# Altium footprint library PcbLib1.PcbLib: 20 footprints (part 1 of 2)
Each footprint in its own frame and in the unit in brackets; x right, y up, seen from the top. Pads: shape width x height; smd on the part's side, far side on the other; paste and mask are expansions set on the pad; w line width, h text height; cw(c..) or ccw(c..) is an arc to the next point about the centre after c.
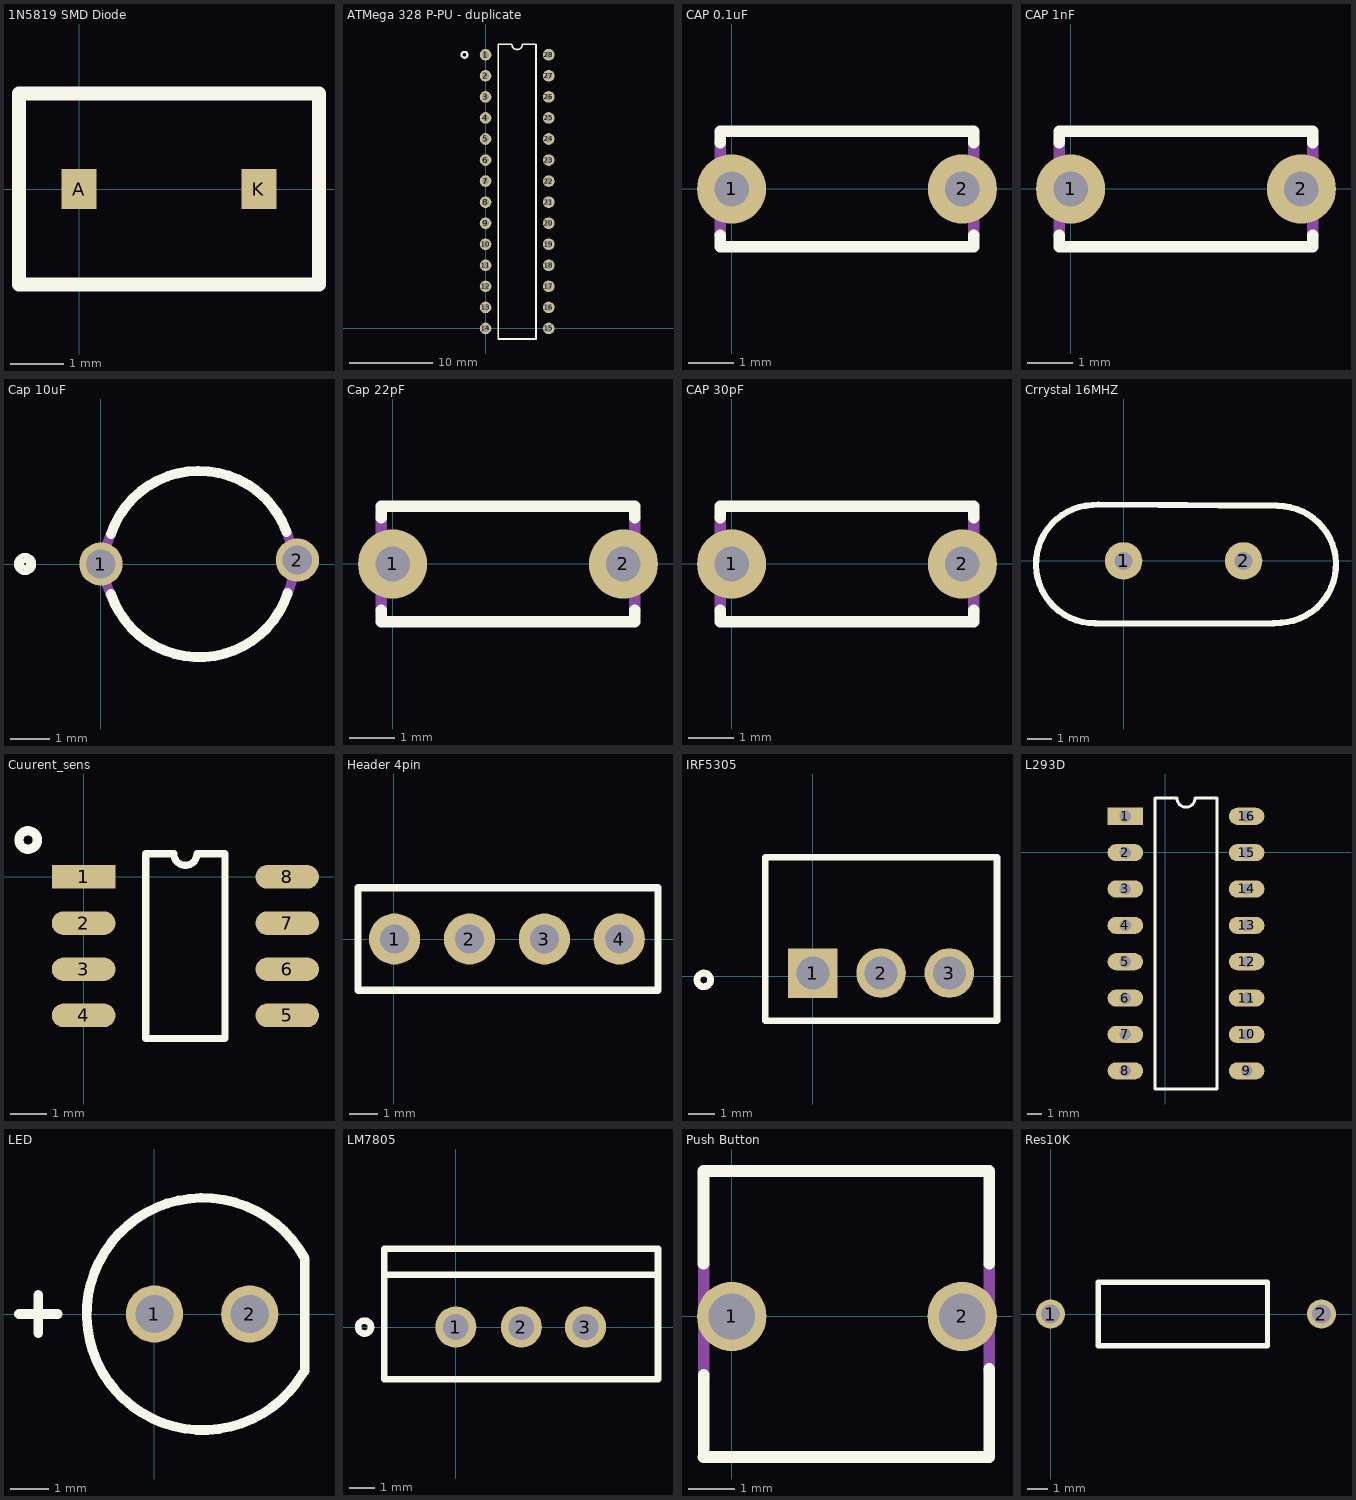
[diagram p0: the footprints below, top view; thin cyan lines are the x and y axes]

## 1N5819 SMD Diode [mm]
pads (2):
  rect 0.65x0.75 smd: A(0,0) K(3.35,0)
Top Overlay:
  lines w0.254: -1.119,-1.778 4.469,-1.778 4.469,1.778 -1.119,1.778 -1.119,-1.778
3D body "1N5819HW-7-F--3DModel-STEP-56544.STEP": height 1.5, standoff -0.03, extent -0.047,-0.788 3.603,0.762

## ATMega 328 P-PU - duplicate [mm]
pads (28):
  round 1.4 hole 0.85: 1(0,33.02) 2(0,30.48) 3(0,27.94) 4(0,25.4) 5(0,22.86) 6(0,20.32) 7(0,17.78) 8(0,15.24) 9(0,12.7) 10(0,10.16) 11(0,7.62) 12(0,5.08) 13(0,2.54) 14(0,0) 15(7.62,0) 16(7.62,2.54) 17(7.62,5.08) 18(7.62,7.62) 19(7.62,10.16) 20(7.62,12.7) 21(7.62,15.24) 22(7.62,17.78) 23(7.62,20.32) 24(7.62,22.86) 25(7.62,25.4) 26(7.62,27.94) 27(7.62,30.48) 28(7.62,33.02)
Top Overlay:
  circle w0.254: c-2.54,33.02 r0.359
  lines w0.2: 1.535,-1.27 6.085,-1.27 6.085,34.29 4.445,34.29 cw(c3.81,34.29) 3.175,34.29 1.535,34.29 1.535,-1.27
3D body "ATMEGA328P-PU--3DModel-STEP-56544.STEP": height 4.57, standoff -3.43, extent -0.14,-0.826 7.76,33.846

## CAP 0.1uF [mil]
pads (2):
  round 60 hole 30: 1(0,0) 2(200,0)
Top Overlay:
  lines w10: -10,-40 -10,-50 210,-50 210,-40 ; -10,40 -10,50 210,50 210,40
Mechanical 1:
  lines w10: -10,-40 -10,40 ; 210,-40 210,40
3D body "SR215E104ZARTR1.STEP": height 230.87, standoff -300, extent -10,-62.5 210,62.5

## CAP 1nF [mil]
pads (2):
  round 60 hole 30: 1(0,0) 2(200,0)
Top Overlay:
  lines w10: -10,-40 -10,-50 210,-50 210,-40 ; -10,40 -10,50 210,50 210,40
Mechanical 1:
  lines w10: -10,-40 -10,40 ; 210,-40 210,40
3D body "Cap 22pF.STEP": height 216.54, standoff -354.33, extent -6.54,-48.43 210,50

## Cap 10uF [mm]
pads (2):
  round 1.1 hole 0.75: 1(0,0) 2(5,0.102)
Top Overlay:
  circle w0.254: c-1.93,0 r0.155
  lines w0.254: 0.254,-0.762 ccw(c2.5,0) 4.754,-0.738 ; 0.254,0.762 cw(c2.5,0) 4.726,0.819
Mechanical 1:
  lines w0.254: 0.254,0.762 ccw(c1.97,-0.02) 0.336,-0.961 ; 4.657,0.941 cw(c3.023,0) 4.735,-0.789
3D body "Cap 10uf.STEP": height 12.5, standoff -15.5, extent -0.21,-2.5 5.29,2.5

## Cap 22pF [mil]
pads (2):
  round 60 hole 30: 1(0,0) 2(200,0)
Top Overlay:
  lines w10: -10,-40 -10,-50 210,-50 210,-40 ; -10,40 -10,50 210,50 210,40
Mechanical 1:
  lines w10: -10,-40 -10,40 ; 210,-40 210,40
3D body "Cap 22pF.STEP": height 216.54, standoff -354.33, extent -8.27,-49.21 208.27,49.21

## CAP 30pF [mil]
pads (2):
  round 60 hole 30: 1(0,0) 2(200,0)
Top Overlay:
  lines w10: -10,-40 -10,-50 210,-50 210,-40 ; -10,40 -10,50 210,50 210,40
Mechanical 1:
  lines w10: -10,-40 -10,40 ; 210,-40 210,40
3D body "SR215E104ZARTR1.STEP": height 230.87, standoff -300, extent -10,-65 210,60

## Crrystal 16MHZ [mil]
pads (2):
  round 60 hole 28.74: 1(0,0) 2(192.13,0)
Top Overlay:
  lines w10: 239.87,-100.13 -45.3,-100.11 cw(c-45.3,-5.26) -50.28,89.46 -40,90 246.44,88.01 cw(c246.44,-5.72) 251.95,-99.29 240.59,-100.01
3D body "Crystal 3D .STEP": height 255.91, standoff -381.89, extent -123.43,-91.54 323.43,91.54

## Cuurent_sens [mm]
pads (8):
  rect 1.75x0.65 smd: 1(0,0)
  oval 1.75x0.65 smd: 2(0,-1.27) 3(0,-2.54) 4(0,-3.81) 5(5.6,-3.81) 6(5.6,-2.54) 7(5.6,-1.27) 8(5.6,0)
Top Overlay:
  circle w0.254: c-1.524,1.016 r0.254
  lines w0.2: 1.71,-4.445 3.89,-4.445 3.89,0.635 3.117,0.635 cw(c2.8,0.635) 2.482,0.635 1.71,0.635 1.71,-4.445
3D body "ACS712ELCTR-20A-T--3DModel-STEP-418109.STEP": height 1.75, standoff 0, extent -0.206,-4.482 5.794,0.418

## Header 4pin [mil]
pads (4):
  round 70 hole 39.37: 1(1,0) 2(103.36,0) 3(205.72,0) 4(308.09,0)
Top Overlay:
  lines w10: -49,-70 361,-70 361,70 -49,70 -49,-70
3D body "SSW-104-02-T-S-LL.stp": height 335, standoff -194, extent -49,-37.5 371,57.5

## IRF5305 [mm]
pads (3):
  rect 1.845x1.845 hole 1.23: 1(0,0.127)
  round 1.845 hole 1.23: 2(2.54,0.127) 3(5.08,0.127)
Top Overlay:
  circle w0.254: c-4.064,-0.127 r0.254
  lines w0.254: -1.778,-1.651 6.858,-1.651 6.858,4.445 -1.778,4.445 -1.778,-1.651
3D body "IRF5305PBF.STEP": height 19.3, standoff -10.03, extent -2.667,-1.27 7.747,3.175

## L293D [mm]
pads (16):
  rect 2.5x1.2 hole 0.8: 1(-2.794,2.54)
  oval 2.5x1.2 hole 0.8: 2(-2.794,-0.01) 3(-2.794,-2.56) 4(-2.794,-5.11) 5(-2.794,-7.66) 6(-2.794,-10.21) 7(-2.794,-12.76) 8(-2.794,-15.31) 9(5.706,-15.31) 10(5.706,-12.76) 11(5.706,-10.21) 12(5.706,-7.66) 13(5.706,-5.11) 14(5.706,-2.56) 15(5.706,-0.01) 16(5.706,2.54)
Top Overlay:
  lines w0.2: -0.709,-16.585 -0.709,3.815 0.818,3.815 ccw(c1.456,3.815) 2.093,3.815 3.621,3.815 3.621,-16.585 -0.709,-16.585
3D body "L293D--3DModel-STEP-418109.STEP": height 5.1, standoff -3.3, extent -3.302,-16.444 5.939,3.556

## LED [mm]
pads (2):
  round 1.5 hole 1: 1(0,0) 2(2.5,0)
Top Overlay:
  lines w0.254: -3.556,0 -2.54,0 ; -3.048,-0.508 -3.048,0.508 ; 3.884,-1.568 cw(c1.27,0) 3.946,1.46 3.946,-1.506
3D body "LED--3DModel-STEP-510211.STEP": height 10.6, standoff -25, extent -1.664,-2.95 3.77,2.95

## LM7805 [mm]
pads (3):
  round 1.6 hole 1: 1(0,0) 2(2.55,0) 3(5.05,0)
Top Overlay:
  circle w0.254: c-3.556,0 r0.254
  lines w0.254: -2.794,2.032 7.874,2.032 ; -2.794,-2.032 -2.794,3.048 7.874,3.048 7.874,-2.032 -2.794,-2.032
3D body "LM7805CT.STEP": height 19.81, standoff -9.52, extent -2.54,-1.841 7.62,2.858

## Push Button [mm]
pads (2):
  round 1.508 hole 1: 1(0,0) 2(5,0)
Top Overlay:
  lines w0.254: -0.612,-3.048 5.588,-3.048 5.588,-1.143 ; -0.612,1.143 -0.612,3.152 5.588,3.152 5.588,1.143 ; -0.61,-3.046 -0.61,-1.27
Mechanical 1:
  lines w0.254: -0.61,-1.295 -0.61,1.092 ; 5.588,-1.194 5.588,1.118

## Res10K [mm]
pads (2):
  round 1.4 hole 0.9: 1(0,0) 2(13,0)
Top Overlay:
  lines w0.254: 2.286,-1.524 10.414,-1.524 10.414,1.524 2.286,1.524 2.286,-1.524
3D body "res10k[3].STEP": height 4.04, standoff -7.5, extent -0.196,-1.23 13.404,1.27